# Altium schematic symbol library Schlib1.SchLib: 9 symbols
Pins are listed as number, name and electrical type; pins without a type are passive.

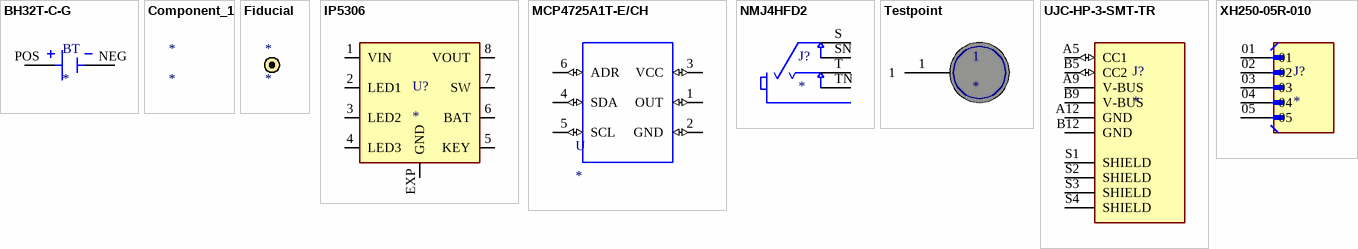
[diagram p0: symbols BH32T-C-G to XH250-05R-010]

## BH32T-C-G
designator BT
BATTERY HOLDER COIN 20MM PC PIN; MF: MPD; MP: BH32T-C-G; Value: *; Availability: Unavailable; SnapEDA_Link: https://www.snapeda.com/parts/BH32T-C-G/Memory%20Protection%20Devices/view-part/4219673/?ref=snap; Package: None; Price: None
footprint BAT_BH32T-C-G
pins: NEG, POS

## Component_1
designator *

## Fiducial
designator *

## IP5306
designator U?
RC (Pi) EMI Filter 2nd Order Low Pass 2 Channel R = 2.2kOhms, C = 1700pF 8-UFBGA, WLCSP; MF: NXP USA Inc.; MP: IP5306; Check_prices: https://www.snapeda.com/parts/IP5306/NXP+Semiconductors/view-part/?ref=eda; Availability: Not in stock; Price: None; Package: UFBGA-8 NXP Semiconductors; Value: *; SnapEDA_Link: https://www.snapeda.com/parts/IP5306/NXP+Semiconductors/view-part/?ref=snap
footprint SOP8-P
footprint SOP8-P
pins: 1 VIN (io), 2 LED1 (io), 3 LED2 (io), 4 LED3 (io), 5 KEY (io), 6 BAT (io), 7 SW (io), 8 VOUT (io), EXP GND (io)

## MCP4725A1T-E/CH
designator U
12 Bit Digital to Analog Converter 1 SOT-23-6; MP: MCP4725A1T-E/CH; MF: Microchip; Availability: Unavailable; SnapEDA_Link: https://www.snapeda.com/parts/MCP4725A1T-E/CH/Microchip/view-part/383076/?ref=snap; Price: None; Value: *; Package: SOT-23-6 Microchip
footprint SOT23-6
pins: 1 OUT (io), 2 GND (io), 3 VCC (io), 4 SDA (io), 5 SCL (io), 6 ADR (io)

## NMJ4HFD2
designator J?
1/4 mono jack, switched, with a full threaded nose and straight PCB pins, mounting nut included; MF: Neutrik; MP: NMJ4HFD2; SnapEDA_Link: https://www.snapeda.com/parts/NMJ4HFD2/Neutrik/view-part/?ref=snap; Package: None; Value: *; Check_prices: https://www.snapeda.com/parts/NMJ4HFD2/Neutrik/view-part/?ref=eda
footprint NEUTRIK_NMJ4HFD2
pins: S, SN, T, TN

## Testpoint
designator 1
pins: 1

## UJC-HP-3-SMT-TR
designator J?
Type C, 3 A, Right Angle, Surface Mount (SMT), Power-Only USB Receptacle; MP: UJC-HP-3-SMT-TR; Value: *; Availability: Unavailable; Price: None; Package: None
footprint CUI_UJC-HP-3-SMT-TR
pins: A5 CC1 (io), A9 V-BUS (power), A12 GND (power), B5 CC2 (io), B9 V-BUS (power), B12 GND (power), S1 SHIELD, S2 SHIELD, S3 SHIELD, S4 SHIELD

## XH250-05R-010
designator J?
Valcon Wire-to-Board 2.50mm Straight & Right Angle PCB Connectors; MP: XH250-05R-010; SnapEDA_Link: https://www.snapeda.com/parts/XH250-05R-010/Valcon/view-part/?ref=snap; Package: None; Value: *; MF: Valcon; Check_prices: https://www.snapeda.com/parts/XH250-05R-010/Valcon/view-part/?ref=eda
footprint VALCON_XH250-05R-010
pins: 01, 02, 03, 04, 05